# Altium schematic symbol library 513002B02500G.SchLib: 1 symbol
Pins are listed as number, name and electrical type; pins without a type are passive.

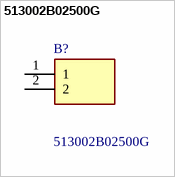
[diagram p0: symbol 513002B02500G]

## 513002B02500G
designator B?
AAVID THERMALLOY - 513002B02500G - HEAT SINK; Geometry.Height: 25.4mm; Mouser Part Number: 532-513002B25G; Mouser Price/Stock: https://www.mouser.co.uk/ProductDetail/Aavid/513002B02500G?qs=FlsQBa5xHTbPBByZnQTykg%3D%3D; Manufacturer_Name: Aavid Thermalloy; Manufacturer_Part_Number: 513002B02500G; Datasheet Link: *
footprint 513002B02500G
pins: 1, 2